# Altium footprint library Zif.PcbLib: 1 footprints
Each footprint in its own frame and in the unit in brackets; x right, y up, seen from the top. Pads: shape width x height; smd on the part's side, far side on the other; paste and mask are expansions set on the pad; w line width, h text height; cw(c..) or ccw(c..) is an arc to the next point about the centre after c.
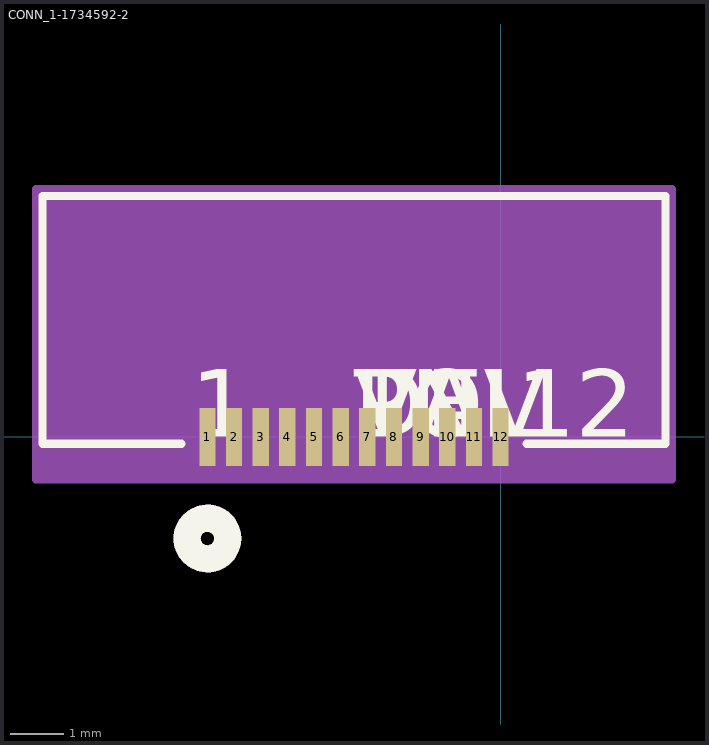
[diagram p0: the footprint, top view; thin cyan lines are the x and y axes]

## CONN_1-1734592-2 [mil]
pads (12):
  rect 12x43 smd: 1(-216.54,0) 2(-196.85,0) 3(-177.17,0) 4(-157.48,0) 5(-137.8,0) 6(-118.11,0) 7(-98.43,0) 8(-78.74,0) 9(-59.06,0) 10(-39.37,0) 11(-19.68,0) 12(0,0)
Top Overlay:
  circle w20: c-216.54,-75 r15
  lines w6: -235.64,-5 -338.27,-5 -338.27,178 121.73,178 121.73,-5 19.1,-5
  text "TOL" at -108.27,0 h50
  text "VAL" at -108.27,0 h50
  text "DEV" at -108.27,0 h50
  text "PN" at -108.27,0 h50
  text "12" at 12,0 h50
  text "12" at 12,0 h50
  text "1" at -228.54,0 h50
  text "1" at -228.54,0 h50
Bottom Overlay:
  circle w20: c-216.54,-75 r15
  text "12" at 12,0 h50
  text "12" at 12,0 h50
  text "1" at -228.54,0 h50
  text "1" at -228.54,0 h50
Mechanical 13:
  circle w20: c-216.54,-75 r15
  lines w1: -333.27,0 -333.27,173 116.73,173 116.73,0 -333.27,0
  text "RefDes2" at -108.27,0 h50
  text "12" at 12,0 h50
  text "12" at 12,0 h50
  text "1" at -228.54,0 h50
  text "1" at -228.54,0 h50
Mechanical 15:
  region: 126.73,183 -343.27,183 -343.27,-31.5 126.73,-31.5
  lines w6: -343.27,-31.5 126.73,-31.5 126.73,183 -343.27,183 -343.27,-31.5
3D body: height 10, standoff 0, extent 0,0 10,10